# Altium schematic symbol library LibExport.SCHLIB: 8 symbols
Pins are listed as number, name and electrical type; pins without a type are passive.

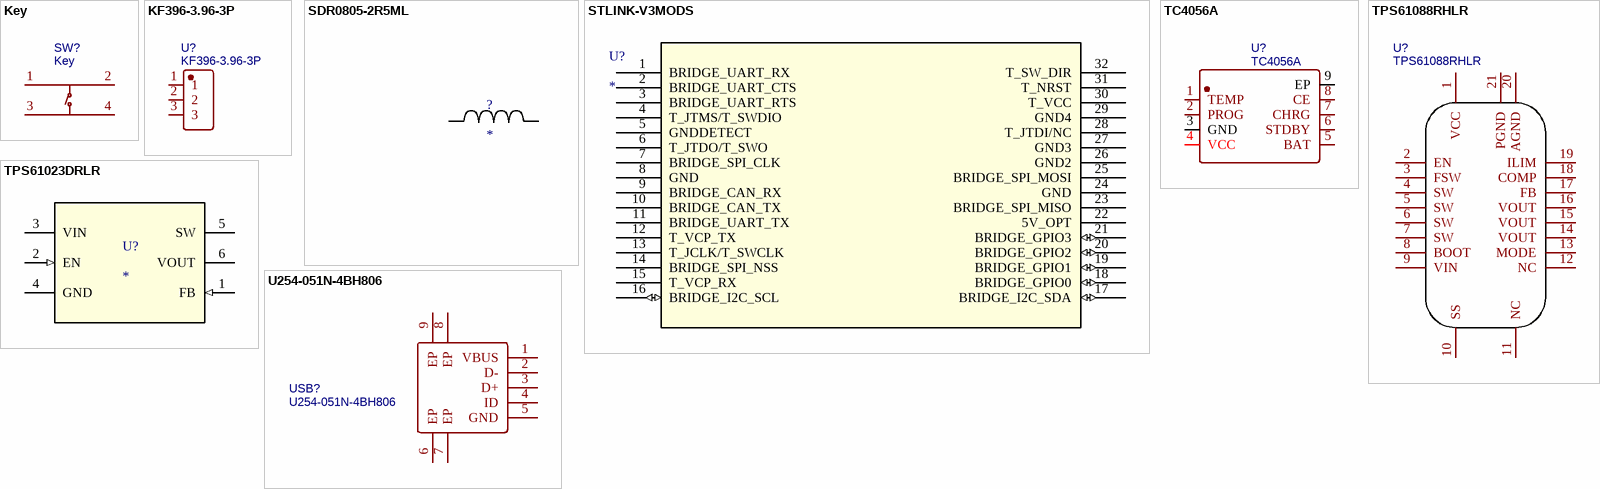
[diagram p0: symbols Key to U254-051N-4BH806]

## Key
designator SW?
BOM_Manufacturer: SHOU HAN; BOM_Manufacturer Part: TS665CJ; Contributor: LCSC; BOM_Supplier: LCSC; BOM_Supplier Part: C393938; spicePre: S; spiceSymbolName: TS665CJ
footprint SW-TH_4P-L6.0-W6.0-P4.50-LS6.5
pins: 1 A, 2 B, 3 C, 4 D

## KF396-3.96-3P
designator U?
BOM_Manufacturer: Cixi Kefa Elec; Contributor: LCSC; BOM_Supplier: LCSC; BOM_Supplier Part: C474895; BOM_Manufacturer Part: KF396-3.96-3P; spicePre: U; spiceSymbolName: KF396-3.96-3P
footprint CONN-TH_3P-P3.96_KF396-3.96-3P
pins: 1, 2, 3

## SDR0805-2R5ML
designator ?
Imported; Manufacturer_Part_Number: SDR0805-2R5ML; Vendor: Bourns; Manufacturer_Name: Bourns; RefDes: RefDes; Type: DEV; Value: Value
footprint SDR0805
pins: 1, 2

## STLINK-V3MODS
designator U?
Imported; Manufacturer_Part_Number: STLINK-V3MOS; Built_By: EMA_Rocco; Vendor: STMicroelectronics; Copyright: Copyright (C) 2018 Accelerated Designs. All rights reserved; Value: Value; Type: Type; RefDes: RefDes
footprint mod_stlink-v3m_m
pins: 1 BRIDGE_UART_RX, 2 BRIDGE_UART_CTS, 3 BRIDGE_UART_RTS, 4 T_JTMS/T_SWDIO, 5 GNDDETECT, 6 T_JTDO/T_SWO, 7 BRIDGE_SPI_CLK, 8 GND, 9 BRIDGE_CAN_RX, 10 BRIDGE_CAN_TX, 11 BRIDGE_UART_TX, 12 T_VCP_TX, 13 T_JCLK/T_SWCLK, 14 BRIDGE_SPI_NSS, 15 T_VCP_RX, 16 BRIDGE_I2C_SCL (io), 17 BRIDGE_I2C_SDA (io), 18 BRIDGE_GPIO0 (io), 19 BRIDGE_GPIO1 (io), 20 BRIDGE_GPIO2 (io), 21 BRIDGE_GPIO3 (io), 22 5V_OPT, 23 BRIDGE_SPI_MISO, 24 GND, 25 BRIDGE_SPI_MOSI, 26 GND2, 27 GND3, 28 T_JTDI/NC, 29 GND4, 30 T_VCC, 31 T_NRST, 32 T_SW_DIR

## TC4056A
designator U?
BOM_Manufacturer: FM; SMT Type: Extend; BOM_Supplier: LCSC; BOM_Manufacturer Part: TC4056A; BOM_Supplier Part: C84051; BOM_LCSC Assembly: Yes; spicePre: U; spiceSymbolName: TC4056A
footprint SOP-8_L4.9-W3.9-P1.27-LS6.0-BL-EP
pins: 1 TEMP, 2 PROG, 3 GND, 4 VCC, 5 BAT, 6 STDBY, 7 CHRG, 8 CE, 9 EP

## TPS61023DRLR
designator U?
Imported; Manufacturer: Texas Instruments; PartNumber: TPS61023DRL; Manufacturer_Part_Number: TPS61023DRLR; RefDes: RefDes; Type: DEV; Value: Value; Manufacturer_Name: Texas Instruments
footprint DRL0006A
pins: 1 FB (in), 2 EN (in), 3 VIN (power), 4 GND (power), 5 SW (power), 6 VOUT (power)

## TPS61088RHLR
designator U?
BOM_Manufacturer: TI; SMT Type: Extend; BOM_Supplier: LCSC; BOM_Manufacturer Part: TPS61088RHLR; BOM_Supplier Part: C87357; BOM_LCSC Assembly: Yes; spicePre: U; spiceSymbolName: TPS61088RHLR
footprint VQFN-20_L4.6-W3.6-P0.50-BL
pins: 1 VCC, 2 EN, 3 FSW, 4 SW, 5 SW, 6 SW, 7 SW, 8 BOOT, 9 VIN, 10 SS, 11 NC, 12 NC, 13 MODE, 14 VOUT, 15 VOUT, 16 VOUT, 17 FB, 18 COMP, 19 ILIM, 20 AGND, 21 PGND

## U254-051N-4BH806
designator USB?
microUSB; BOM_Manufacturer: XKB Enterprise; Contributor: LCSC; BOM_Supplier: LCSC; BOM_Supplier Part: C319170; BOM_Manufacturer Part: U254-051N-4BH806; spicePre: U; spiceSymbolName: U254-051N-4BH806
footprint MICRO-USB-SMD_U254-051N-4BH806
pins: 1 VBUS, 2 D-, 3 D+, 4 ID, 5 GND, 6 EP, 7 EP, 8 EP, 9 EP